# EAGLE library part BR-LE4.0-S3-NC (library BlueRadios_D2_S2_C46_Eagle_footprint)
Bluetooth module with disconnected test pads.
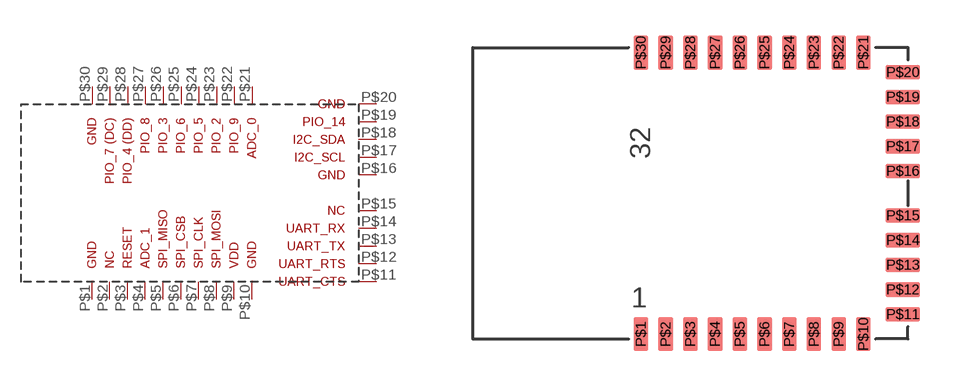
[diagram p1: symbol with the pads of BR-LE4.0-X2A-NC; footprint BR-LE4.0-X2A-NC]

Designator prefix -

## BR-LE4.0-S3-NC  [BR-LE4.0-X2A-NC]
P$1  P$1
P$2  P$2  nc
P$3  P$3
P$4  P$4
P$5  P$5
P$6  P$6
P$7  P$7
P$8  P$8
P$9  P$9
P$10  P$10
P$11  P$11
P$12  P$12
P$13  P$13
P$14  P$14
P$15  P$15  nc
P$16  P$16
P$17  P$17
P$18  P$18
P$19  P$19
P$20  P$20
P$21  P$21
P$22  P$22
P$23  P$23
P$24  P$24
P$25  P$25
P$26  P$26
P$27  P$27
P$28  P$28
P$29  P$29
P$30  P$30

## Footprint BR-LE4.0-X2A-NC (pad centres in mm)
smd 0.6 x 1.4: P$1 -3.27,-5.7; P$2 -2.27,-5.7; P$3 -1.27,-5.7; P$4 -0.27,-5.7; P$5 0.73,-5.7; P$6 1.73,-5.7; P$7 2.73,-5.7; P$8 3.73,-5.7; P$9 4.73,-5.7; P$10 5.73,-5.7; P$21 5.73,5.7; P$22 4.73,5.7; P$23 3.73,5.7; P$24 2.73,5.7; P$25 1.73,5.7; P$26 0.73,5.7; P$27 -0.27,5.7; P$28 -1.27,5.7; P$29 -2.27,5.7; P$30 -3.27,5.7
smd 1.4 x 0.6: P$11 7.33,-4.9; P$12 7.33,-3.9; P$13 7.33,-2.9; P$14 7.33,-1.9; P$15 7.33,-0.9; P$16 7.33,0.9; P$17 7.33,1.9; P$18 7.33,2.9; P$19 7.33,3.9; P$20 7.33,4.9